# EAGLE library part RPI-HAT (library mbed-HDK-Board&Enclosure)
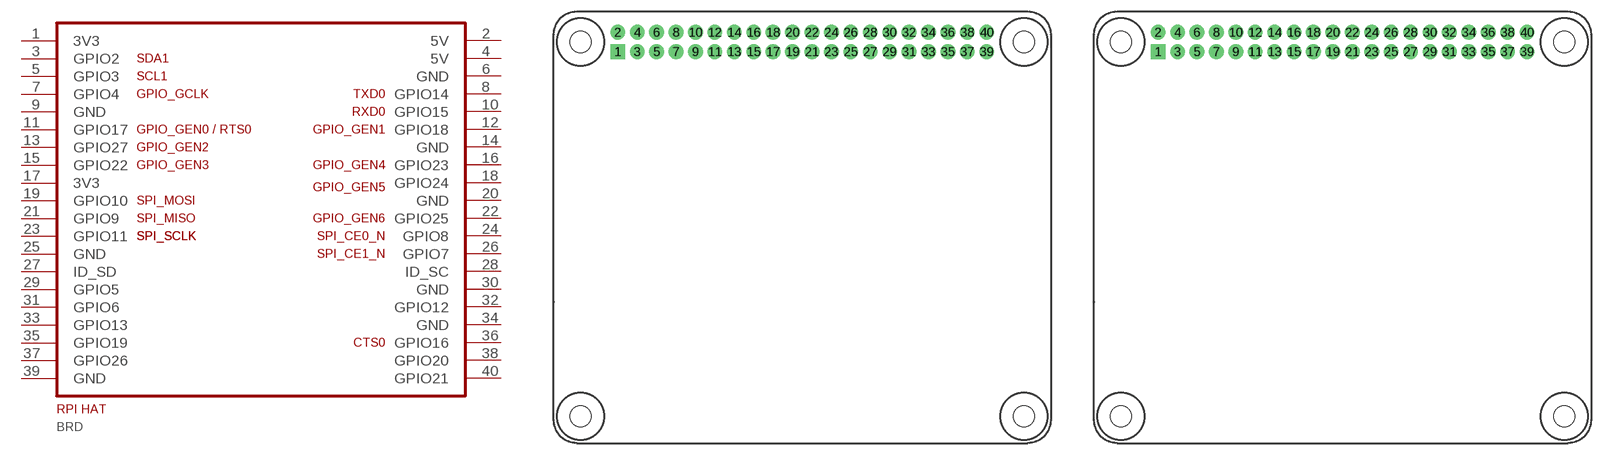
[diagram p0: symbol with the pads of RPI-HAT; footprints RPI-HAT, RPI-HAT-C]

Designator prefix BRD

## RPI-HAT  [RPI-HAT]
1  3V3
2  5V
3  GPIO2
4  5V
5  GPIO3
6  GND
7  GPIO4
8  GPIO14
9  GND
10  GPIO15
11  GPIO17
12  GPIO18
13  GPIO27
14  GND
15  GPIO22
16  GPIO23
17  3V3
18  GPIO24
19  GPIO10
20  GND
21  GPIO9
22  GPIO25
23  GPIO11
24  GPIO8
25  GND
26  GPIO7
27  ID_SD
28  ID_SC
29  GPIO5
30  GND
31  GPIO6
32  GPIO12
33  GPIO13
34  GND
35  GPIO19
36  GPIO16
37  GPIO26
38  GPIO20
39  GND
40  GPIO21

## RPI-HAT-C  [RPI-HAT-C]
Pads as for RPI-HAT

## RPI-HAT-D  [RPI-HAT-D]
Pads as for RPI-HAT

## RPI-HAT-CD  [RPI-HAT-CD]
Pads as for RPI-HAT

## RPI-HAT-NO-OUTLINE  [RPI-HAT-NO-OUTLINE]
Pads as for RPI-HAT

## Footprint RPI-HAT (pad centres in mm)
drill 1 pad 1.93 square: 1 -24.13,-1.27
drill 1 pad 1.93: 2 -24.13,1.27; 3 -21.59,-1.27; 4 -21.59,1.27; 5 -19.05,-1.27; 6 -19.05,1.27; 7 -16.51,-1.27; 8 -16.51,1.27; 9 -13.97,-1.27; 10 -13.97,1.27; 11 -11.43,-1.27; 12 -11.43,1.27; 13 -8.89,-1.27; 14 -8.89,1.27; 15 -6.35,-1.27; 16 -6.35,1.27; 17 -3.81,-1.27; 18 -3.81,1.27; 19 -1.27,-1.27; 20 -1.27,1.27; 21 1.27,-1.27; 22 1.27,1.27; 23 3.81,-1.27; 24 3.81,1.27; 25 6.35,-1.27; 26 6.35,1.27; 27 8.89,-1.27; 28 8.89,1.27; 29 11.43,-1.27; 30 11.43,1.27; 31 13.97,-1.27; 32 13.97,1.27; 33 16.51,-1.27; 34 16.51,1.27; 35 19.05,-1.27; 36 19.05,1.27; 37 21.59,-1.27; 38 21.59,1.27; 39 24.13,-1.27; 40 24.13,1.27
hole 2.8 at -29,-49
hole 2.8 at 29,-49
hole 2.8 at 29,0
hole 2.8 at -29,0

## Footprint RPI-HAT-C (pad centres in mm)
drill 1 pad 1.93 square: 1 -24.13,-1.27
drill 1 pad 1.93: 2 -24.13,1.27; 3 -21.59,-1.27; 4 -21.59,1.27; 5 -19.05,-1.27; 6 -19.05,1.27; 7 -16.51,-1.27; 8 -16.51,1.27; 9 -13.97,-1.27; 10 -13.97,1.27; 11 -11.43,-1.27; 12 -11.43,1.27; 13 -8.89,-1.27; 14 -8.89,1.27; 15 -6.35,-1.27; 16 -6.35,1.27; 17 -3.81,-1.27; 18 -3.81,1.27; 19 -1.27,-1.27; 20 -1.27,1.27; 21 1.27,-1.27; 22 1.27,1.27; 23 3.81,-1.27; 24 3.81,1.27; 25 6.35,-1.27; 26 6.35,1.27; 27 8.89,-1.27; 28 8.89,1.27; 29 11.43,-1.27; 30 11.43,1.27; 31 13.97,-1.27; 32 13.97,1.27; 33 16.51,-1.27; 34 16.51,1.27; 35 19.05,-1.27; 36 19.05,1.27; 37 21.59,-1.27; 38 21.59,1.27; 39 24.13,-1.27; 40 24.13,1.27
hole 2.8 at -29,-49
hole 2.8 at 29,-49
hole 2.8 at 29,0
hole 2.8 at -29,0

## Footprint RPI-HAT-D (pad centres in mm)
drill 1 pad 1.93 square: 1 -24.13,-1.27
drill 1 pad 1.93: 2 -24.13,1.27; 3 -21.59,-1.27; 4 -21.59,1.27; 5 -19.05,-1.27; 6 -19.05,1.27; 7 -16.51,-1.27; 8 -16.51,1.27; 9 -13.97,-1.27; 10 -13.97,1.27; 11 -11.43,-1.27; 12 -11.43,1.27; 13 -8.89,-1.27; 14 -8.89,1.27; 15 -6.35,-1.27; 16 -6.35,1.27; 17 -3.81,-1.27; 18 -3.81,1.27; 19 -1.27,-1.27; 20 -1.27,1.27; 21 1.27,-1.27; 22 1.27,1.27; 23 3.81,-1.27; 24 3.81,1.27; 25 6.35,-1.27; 26 6.35,1.27; 27 8.89,-1.27; 28 8.89,1.27; 29 11.43,-1.27; 30 11.43,1.27; 31 13.97,-1.27; 32 13.97,1.27; 33 16.51,-1.27; 34 16.51,1.27; 35 19.05,-1.27; 36 19.05,1.27; 37 21.59,-1.27; 38 21.59,1.27; 39 24.13,-1.27; 40 24.13,1.27
hole 2.8 at -29,-49
hole 2.8 at 29,-49
hole 2.8 at 29,0
hole 2.8 at -29,0

## Footprint RPI-HAT-CD (pad centres in mm)
drill 1 pad 1.93 square: 1 -24.13,-1.27
drill 1 pad 1.93: 2 -24.13,1.27; 3 -21.59,-1.27; 4 -21.59,1.27; 5 -19.05,-1.27; 6 -19.05,1.27; 7 -16.51,-1.27; 8 -16.51,1.27; 9 -13.97,-1.27; 10 -13.97,1.27; 11 -11.43,-1.27; 12 -11.43,1.27; 13 -8.89,-1.27; 14 -8.89,1.27; 15 -6.35,-1.27; 16 -6.35,1.27; 17 -3.81,-1.27; 18 -3.81,1.27; 19 -1.27,-1.27; 20 -1.27,1.27; 21 1.27,-1.27; 22 1.27,1.27; 23 3.81,-1.27; 24 3.81,1.27; 25 6.35,-1.27; 26 6.35,1.27; 27 8.89,-1.27; 28 8.89,1.27; 29 11.43,-1.27; 30 11.43,1.27; 31 13.97,-1.27; 32 13.97,1.27; 33 16.51,-1.27; 34 16.51,1.27; 35 19.05,-1.27; 36 19.05,1.27; 37 21.59,-1.27; 38 21.59,1.27; 39 24.13,-1.27; 40 24.13,1.27
hole 2.8 at -29,-49
hole 2.8 at 29,-49
hole 2.8 at 29,0
hole 2.8 at -29,0

## Footprint RPI-HAT-NO-OUTLINE (pad centres in mm)
drill 1 pad 1.93 square: 1 -24.13,-1.27
drill 1 pad 1.93: 2 -24.13,1.27; 3 -21.59,-1.27; 4 -21.59,1.27; 5 -19.05,-1.27; 6 -19.05,1.27; 7 -16.51,-1.27; 8 -16.51,1.27; 9 -13.97,-1.27; 10 -13.97,1.27; 11 -11.43,-1.27; 12 -11.43,1.27; 13 -8.89,-1.27; 14 -8.89,1.27; 15 -6.35,-1.27; 16 -6.35,1.27; 17 -3.81,-1.27; 18 -3.81,1.27; 19 -1.27,-1.27; 20 -1.27,1.27; 21 1.27,-1.27; 22 1.27,1.27; 23 3.81,-1.27; 24 3.81,1.27; 25 6.35,-1.27; 26 6.35,1.27; 27 8.89,-1.27; 28 8.89,1.27; 29 11.43,-1.27; 30 11.43,1.27; 31 13.97,-1.27; 32 13.97,1.27; 33 16.51,-1.27; 34 16.51,1.27; 35 19.05,-1.27; 36 19.05,1.27; 37 21.59,-1.27; 38 21.59,1.27; 39 24.13,-1.27; 40 24.13,1.27
hole 2.8 at -29,-49
hole 2.8 at 29,-49
hole 2.8 at 29,0
hole 2.8 at -29,0